# EAGLE library part IC14 (library proto)
14 pin IC
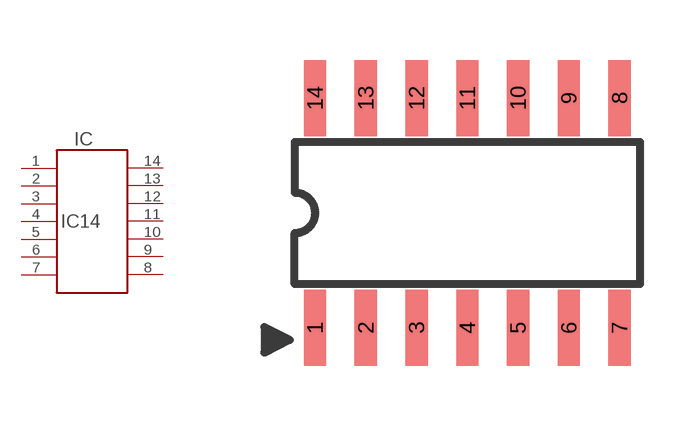
[diagram p0: symbol with the pads of SO14; footprint SO14]

Designator prefix IC

## IC14SOIC  [SO14]
1  1
2  2
3  3
4  4
5  5
6  6
7  7
8  8
9  9
10  10
11  11
12  12
13  13
14  14

## Footprint SO14 (pad centres in mm)
14 pin SO (small outline), 50mil pin spacing, .24 width
smd 0.559 x 1.905: 1 -3.81,-2.87; 2 -2.54,-2.87; 3 -1.27,-2.87; 4 0,-2.87; 5 1.27,-2.87; 6 2.54,-2.87; 7 3.81,-2.87; 8 3.81,2.87; 9 2.54,2.87; 10 1.27,2.87; 11 0,2.87; 12 -1.27,2.87; 13 -2.54,2.87; 14 -3.81,2.87